# EAGLE library part MEC1-150-02-F-D (library Samtec MEC1 - Card Edge Connector)
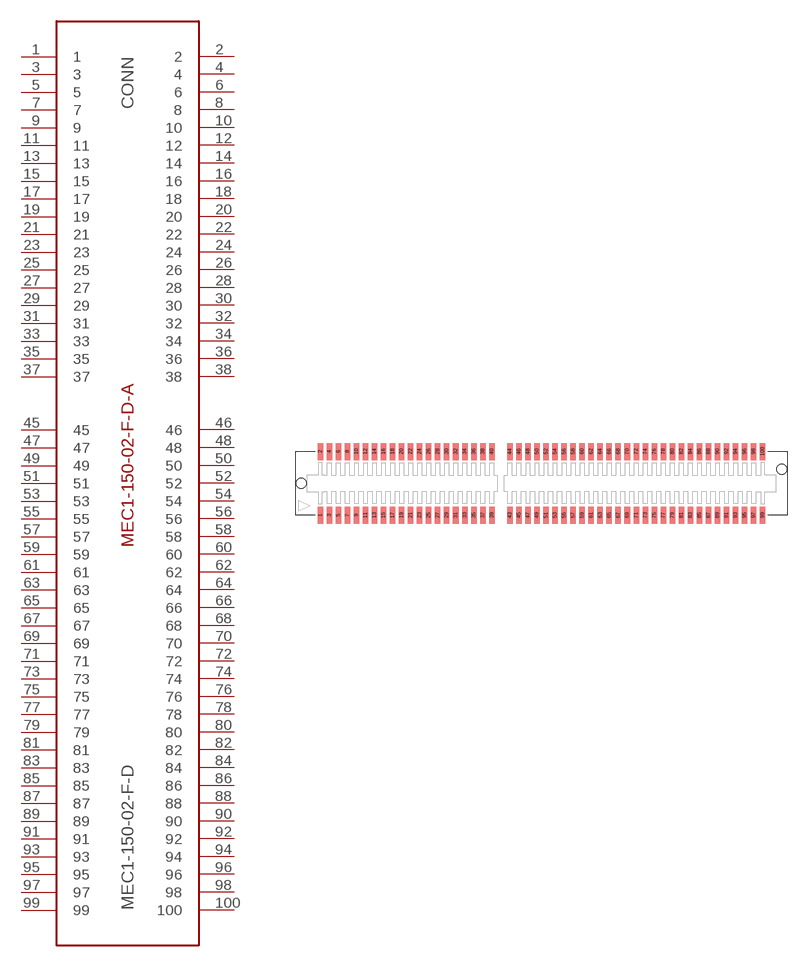
[diagram p0: symbol with the pads of MEC1-150-02-F-D-A; footprint MEC1-150-02-F-D-A]

Designator prefix CONN

## MEC1-150-02-F-DJ  [MEC1-150-02-F-D-A]
1  1  pas
2  2  pas
3  3  pas
4  4  pas
5  5  pas
6  6  pas
7  7  pas
8  8  pas
9  9  pas
10  10  pas
11  11  pas
12  12  pas
13  13  pas
14  14  pas
15  15  pas
16  16  pas
17  17  pas
18  18  pas
19  19  pas
20  20  pas
21  21  pas
22  22  pas
23  23  pas
24  24  pas
25  25  pas
26  26  pas
27  27  pas
28  28  pas
29  29  pas
30  30  pas
31  31  pas
32  32  pas
33  33  pas
34  34  pas
35  35  pas
36  36  pas
37  37  pas
38  38  pas
45  45  pas
46  46  pas
47  47  pas
48  48  pas
49  49  pas
50  50  pas
51  51  pas
52  52  pas
53  53  pas
54  54  pas
55  55  pas
56  56  pas
57  57  pas
58  58  pas
59  59  pas
60  60  pas
61  61  pas
62  62  pas
63  63  pas
64  64  pas
65  65  pas
66  66  pas
67  67  pas
68  68  pas
69  69  pas
70  70  pas
71  71  pas
72  72  pas
73  73  pas
74  74  pas
75  75  pas
76  76  pas
77  77  pas
78  78  pas
79  79  pas
80  80  pas
81  81  pas
82  82  pas
83  83  pas
84  84  pas
85  85  pas
86  86  pas
87  87  pas
88  88  pas
89  89  pas
90  90  pas
91  91  pas
92  92  pas
93  93  pas
94  94  pas
95  95  pas
96  96  pas
97  97  pas
98  98  pas
99  99  pas
100  100  pas

## Footprint MEC1-150-02-F-D-A (pad centres in mm)
translated Allegro footprint
smd 0.61 x 1.88: 1 -24.5,-3.531; 2 -24.5,3.531; 3 -23.5,-3.531; 4 -23.5,3.531; 5 -22.5,-3.531; 6 -22.5,3.531; 7 -21.5,-3.531; 8 -21.5,3.531; 9 -20.5,-3.531; 10 -20.5,3.531; 11 -19.5,-3.531; 12 -19.5,3.531; 13 -18.5,-3.531; 14 -18.5,3.531; 15 -17.5,-3.531; 16 -17.5,3.531; 17 -16.5,-3.531; 18 -16.5,3.531; 19 -15.5,-3.531; 20 -15.5,3.531; 21 -14.5,-3.531; 22 -14.5,3.531; 23 -13.5,-3.531; 24 -13.5,3.531; 25 -12.5,-3.531; 26 -12.5,3.531; 27 -11.5,-3.531; 28 -11.5,3.531; 29 -10.5,-3.531; 30 -10.5,3.531; 31 -9.5,-3.531; 32 -9.5,3.531; 33 -8.5,-3.531; 34 -8.5,3.531; 35 -7.5,-3.531; 36 -7.5,3.531; 37 -6.5,-3.531; 38 -6.5,3.531; 39 -5.5,-3.531; 40 -5.5,3.531; 43 -3.5,-3.531; 44 -3.5,3.531; 45 -2.5,-3.531; 46 -2.5,3.531; 47 -1.5,-3.531; 48 -1.5,3.531; 49 -0.5,-3.531; 50 -0.5,3.531; 51 0.5,-3.531; 52 0.5,3.531; 53 1.5,-3.531; 54 1.5,3.531; 55 2.5,-3.531; 56 2.5,3.531; 57 3.5,-3.531; 58 3.5,3.531; 59 4.5,-3.531; 60 4.5,3.531; 61 5.5,-3.531; 62 5.5,3.531; 63 6.5,-3.531; 64 6.5,3.531; 65 7.5,-3.531; 66 7.5,3.531; 67 8.5,-3.531; 68 8.5,3.531; 69 9.5,-3.531; 70 9.5,3.531; 71 10.5,-3.531; 72 10.5,3.531; 73 11.5,-3.531; 74 11.5,3.531; 75 12.5,-3.531; 76 12.5,3.531; 77 13.5,-3.531; 78 13.5,3.531; 79 14.5,-3.531; 80 14.5,3.531; 81 15.5,-3.531; 82 15.5,3.531; 83 16.5,-3.531; 84 16.5,3.531; 85 17.5,-3.531; 86 17.5,3.531; 87 18.5,-3.531; 88 18.5,3.531; 89 19.5,-3.531; 90 19.5,3.531; 91 20.5,-3.531; 92 20.5,3.531; 93 21.5,-3.531; 94 21.5,3.531; 95 22.5,-3.531; 96 22.5,3.531; 97 23.5,-3.531; 98 23.5,3.531; 99 24.5,-3.531; 100 24.5,3.531
hole 1.1 at -26.622,0
hole 1.1 at 26.622,1.588